# EAGLE library part SL-2283 (library led7s_SL-2xxx)
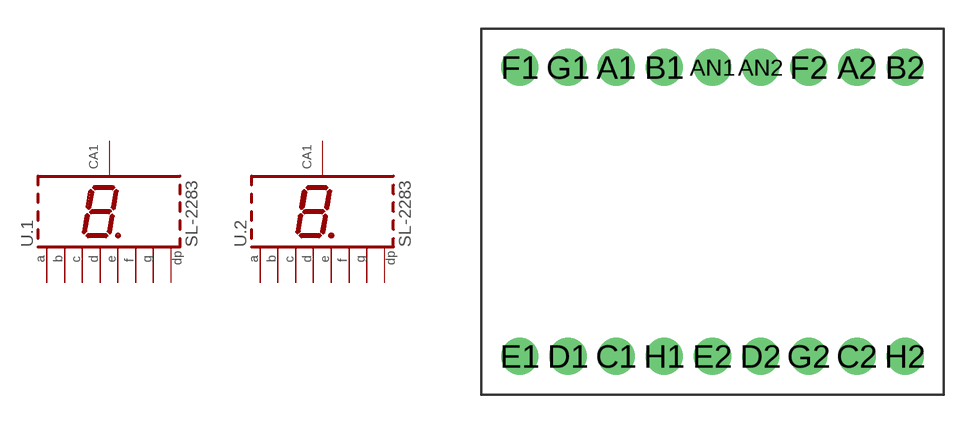
[diagram p1: symbol with the pads of SL-2283; footprint SL-2283]

Designator prefix -; gates .1=7SEG .2=7SEG

## SL-2283  [SL-2283]
A1  .1:A1  pas
A2  .2:A1  pas
AN1  .1:AN1  pas
AN2  .2:AN1  pas
B1  .1:B1  pas
B2  .2:B1  pas
C1  .1:C1  pas
C2  .2:C1  pas
D1  .1:D1  pas
D2  .2:D1  pas
E1  .1:E1  pas
E2  .2:E1  pas
F1  .1:F1  pas
F2  .2:F1  pas
G1  .1:G1  pas
G2  .2:G1  pas
H1  .1:H1  pas
H2  .2:H1  pas

## Footprint SL-2283 (pad centres in mm)
drill 0.8 pad 1.93: A1 -5,7.5; A2 7.5,7.5; AN1 0,7.5; AN2 2.5,7.5; B1 -2.5,7.5; B2 10,7.5; C1 -5,-7.5; C2 7.5,-7.5; D1 -7.5,-7.5; D2 2.5,-7.5; E1 -10,-7.5; E2 0,-7.5; F1 -10,7.5; F2 5,7.5; G1 -7.5,7.5; G2 5,-7.5; H1 -2.5,-7.5; H2 10,-7.5